# Altium footprint library taster.PcbLib: 6 footprints
Each footprint in its own frame and in the unit in brackets; x right, y up, seen from the top. Pads: shape width x height; smd on the part's side, far side on the other; paste and mask are expansions set on the pad; w line width, h text height; cw(c..) or ccw(c..) is an arc to the next point about the centre after c.
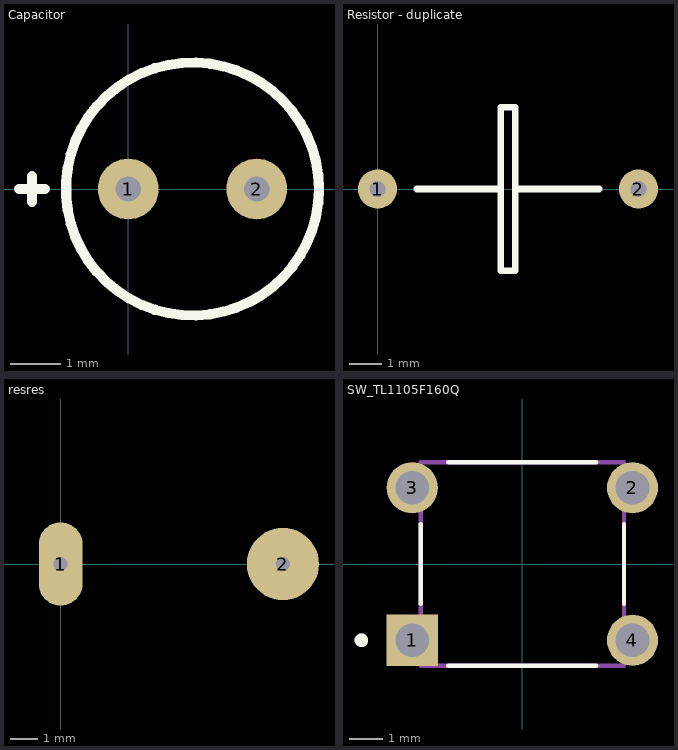
[diagram p0: the footprints below, top view; thin cyan lines are the x and y axes]

## Capacitor [mm]
pads (2):
  round 1.2 hole 0.5: 1(0,0) 2(2.54,0)
Top Overlay:
  circle w0.2: c1.27,0 r2.5
  lines w0.2: -2.159,0 -1.651,0 ; -1.905,-0.254 -1.905,0.254

## PCBComponent_1 [mm]

## Resistor [mm]

## Resistor - duplicate [mm]
pads (2):
  round 1.2 hole 0.5: 1(0,0) 2(8,0)
Top Overlay:
  lines w0.2: 1.2,0 3.775,0 ; 4.225,0 6.8,0 ; 3.775,0 3.775,-2.5 4.225,-2.5 4.225,2.5 3.775,2.5 3.775,0

## resres [mm]
pads (2):
  oval 1.575x3 hole 0.5: 1(0,0)
  round 2.6 hole 0.5: 2(8,0)

## SW_TL1105F160Q [mm]
height 13
pads (4):
  rect 1.508x1.508 / inner round 1.508 / far side rect 1.508x1.508 hole 1: 1(-3.25,-2.25)
  round 1.508 hole 1: 2(3.25,2.25) 3(-3.25,2.25) 4(3.25,-2.25)
Top Overlay:
  circle w0.2: c-4.75,-2.25 r0.1
  lines w0.127: -3,-1.182 -3,1.182 ; -2.183,-3 2.183,-3 ; -2.183,3 2.183,3 ; 3,-1.182 3,1.182
Mechanical 13:
  circle w0.2: c-4.75,-2.25 r0.1
  lines w0.127: -3,-3 3,-3 3,3 -3,3 -3,-3